# EAGLE library part CARD-2016 (library FSAE Electric)
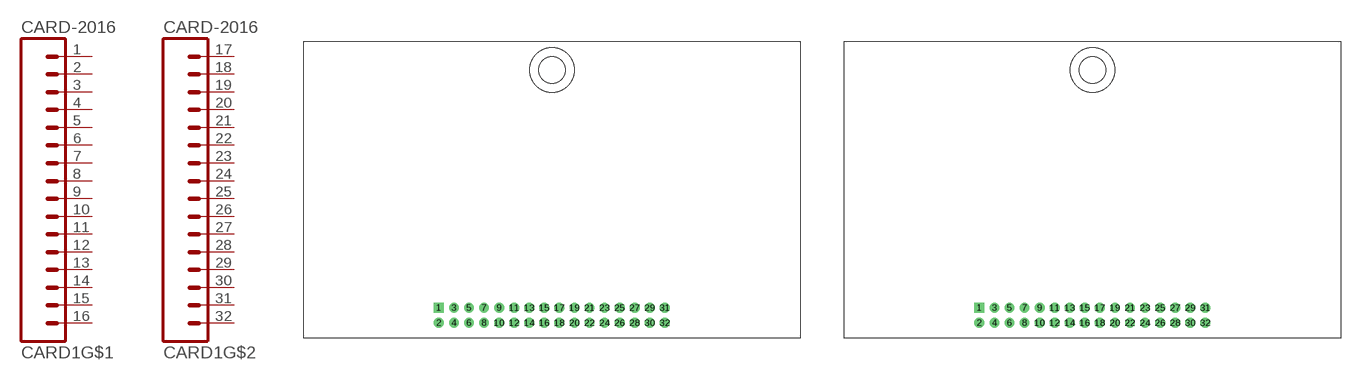
[diagram p94: symbol with the pads of CARD-2016; footprints CARD-2016, CARD-2016-RCP]

Designator prefix CARD1; gates G$1=M16 G$2=M16

## CARD-2016CARD  [CARD-2016]
1  G$1:1  pas
2  G$1:2  pas
3  G$1:3  pas
4  G$1:4  pas
5  G$1:5  pas
6  G$1:6  pas
7  G$1:7  pas
8  G$1:8  pas
9  G$1:9  pas
10  G$1:10  pas
11  G$1:11  pas
12  G$1:12  pas
13  G$1:13  pas
14  G$1:14  pas
15  G$1:15  pas
16  G$1:16  pas
17  G$2:1  pas
18  G$2:2  pas
19  G$2:3  pas
20  G$2:4  pas
21  G$2:5  pas
22  G$2:6  pas
23  G$2:7  pas
24  G$2:8  pas
25  G$2:9  pas
26  G$2:10  pas
27  G$2:11  pas
28  G$2:12  pas
29  G$2:13  pas
30  G$2:14  pas
31  G$2:15  pas
32  G$2:16  pas

## CARD-2016RECP  [CARD-2016-RCP]
Pads as for CARD-2016

## Footprint CARD-2016 (pad centres in mm)
drill 0.8 square: 1 18,4
drill 0.8: 2 18,2; 3 20,4; 4 20,2; 5 22,4; 6 22,2; 7 24,4; 8 24,2; 9 26,4; 10 26,2; 11 28,4; 12 28,2; 13 30,4; 14 30,2; 15 32,4; 16 32,2; 17 34,4; 18 34,2; 19 36,4; 20 36,2; 21 38,4; 22 38,2; 23 40,4; 24 40,2; 25 42,4; 26 42,2; 27 44,4; 28 44,2; 29 46,4; 30 46,2; 31 48,4; 32 48,2
hole 3.5 at 33.02,35.56

## Footprint CARD-2016-RCP (pad centres in mm)
drill 0.8 square: 1 18,4
drill 0.8: 2 18,2; 3 20,4; 4 20,2; 5 22,4; 6 22,2; 7 24,4; 8 24,2; 9 26,4; 10 26,2; 11 28,4; 12 28,2; 13 30,4; 14 30,2; 15 32,4; 16 32,2; 17 34,4; 18 34,2; 19 36,4; 20 36,2; 21 38,4; 22 38,2; 23 40,4; 24 40,2; 25 42,4; 26 42,2; 27 44,4; 28 44,2; 29 46,4; 30 46,2; 31 48,4; 32 48,2
hole 3.5 at 33.02,35.56